# Altium schematic symbol library ICs.SchLib: 65 symbols
Pins are listed as number, name and electrical type; pins without a type are passive.

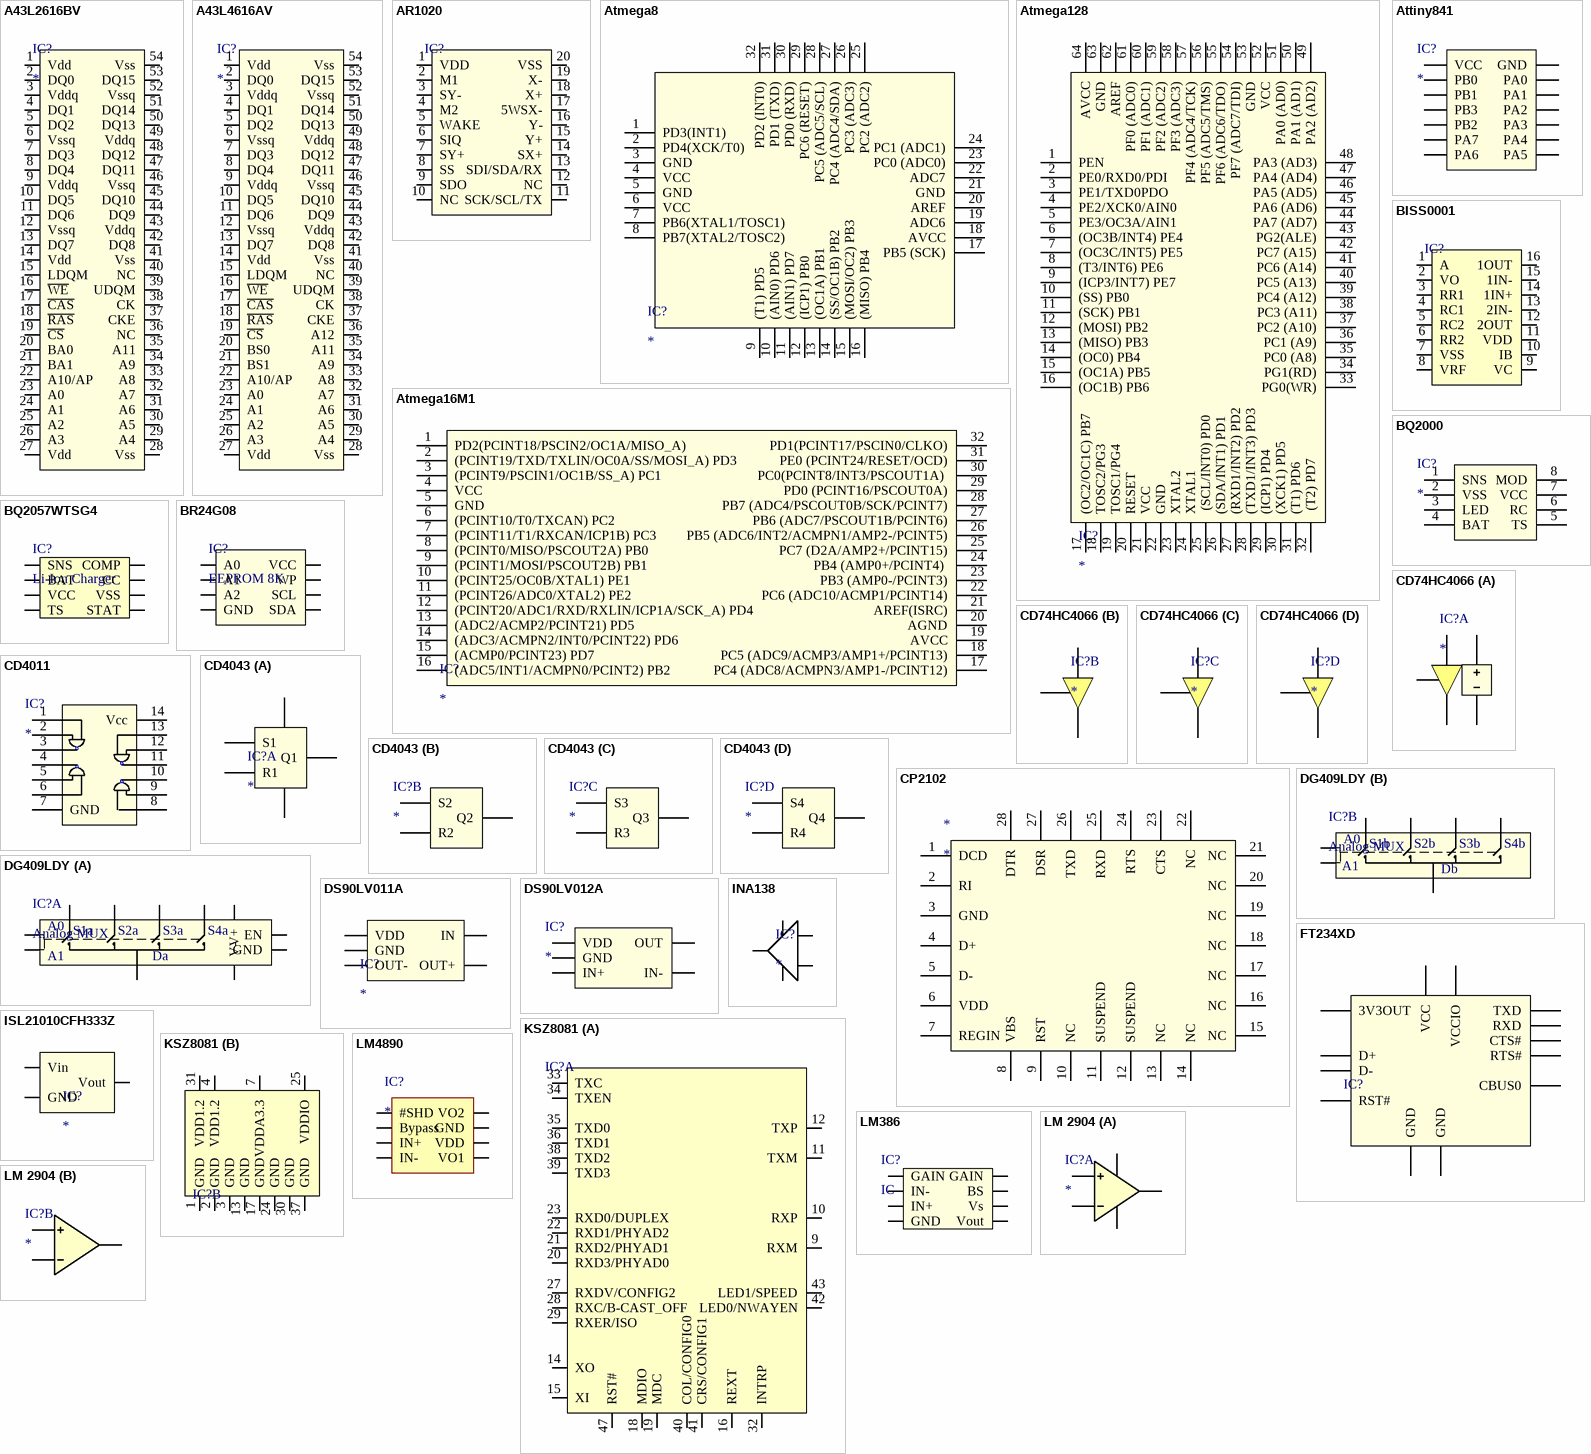
[diagram p0: symbols A43L2616BV to LM 2904]

## A43L2616BV
designator IC?
DRAM 64M; Ordercode: A43L2616BV-7F; ComponentLink1Description: Datasheet; Lötbarkeit RoHS: YES; Material RoHS: YES
footprint TSOP-54 (TSOP, 54-Leads, Body 22,22x10,16mm, Pitch 0,80mm, IPC Medium Density)
pins: 1 Vdd, 2 DQ0, 3 Vddq, 4 DQ1, 5 DQ2, 6 Vssq, 7 DQ3, 8 DQ4, 9 Vddq, 10 DQ5, 11 DQ6, 12 Vssq, 13 DQ7, 14 Vdd, 15 LDQM, 16 ~{WE}, 17 ~{CAS}, 18 ~{RAS}, 19 ~{CS}, 20 BA0, 21 BA1, 22 A10/AP, 23 A0, 24 A1, 25 A2, 26 A3, 27 Vdd, 28 Vss, 29 A4, 30 A5, 31 A6, 32 A7, 33 A8, 34 A9, 35 A11, 36 NC, 37 CKE, 38 CK, 39 UDQM, 40 NC, 41 Vss, 42 DQ8, 43 Vddq, 44 DQ9, 45 DQ10, 46 Vssq, 47 DQ11, 48 DQ12, 49 Vddq, 50 DQ13, 51 DQ14, 52 Vssq, 53 DQ15, 54 Vss

## A43L4616AV
designator IC?
RAM 256M; Ordercode: A43L4616AV; ComponentLink1Description: Datasheet; Lötbarkeit RoHS: YES; Material RoHS: YES
footprint TSOP-54 (TSOP, 54-Leads, Body 22,22x10,16mm, Pitch 0,80mm, IPC Medium Density)
pins: 1 Vdd, 2 DQ0, 3 Vddq, 4 DQ1, 5 DQ2, 6 Vssq, 7 DQ3, 8 DQ4, 9 Vddq, 10 DQ5, 11 DQ6, 12 Vssq, 13 DQ7, 14 Vdd, 15 LDQM, 16 ~{WE}, 17 ~{CAS}, 18 ~{RAS}, 19 ~{CS}, 20 BS0, 21 BS1, 22 A10/AP, 23 A0, 24 A1, 25 A2, 26 A3, 27 Vdd, 28 Vss, 29 A4, 30 A5, 31 A6, 32 A7, 33 A8, 34 A9, 35 A11, 36 A12, 37 CKE, 38 CK, 39 UDQM, 40 NC, 41 Vss, 42 DQ8, 43 Vddq, 44 DQ9, 45 DQ10, 46 Vssq, 47 DQ11, 48 DQ12, 49 Vddq, 50 DQ13, 51 DQ14, 52 Vssq, 53 DQ15, 54 Vss

## AR1020
designator IC?, comment Resistive TouchScreen Controller  (value not drawn)
Ordercode: AR1020T-I/SS; ComponentLink1Description: Datasheet; Lötbarkeit RoHS: YES; Material RoHS: YES
footprint SSOP20 (SOP, 20-Leads, Body 7,20x5,30mm, Pitch 0,65mm, IPC Medium Density)
pins: 1 VDD, 2 M1, 3 SY-, 4 M2, 5 WAKE, 6 SIQ, 7 SY+, 8 SS, 9 SDO, 10 NC, 11 SCK/SCL/TX, 12 NC, 13 SDI/SDA/RX, 14 SX+, 15 Y+, 16 Y-, 17 5WSX-, 18 X+, 19 X-, 20 VSS

## Atmega8
designator IC?
ComponentLink1Description: Datasheet; ComponentLink1URL: http://www.atmel.com/images/atmel-2486-8-bit-avr-microcontroller-atmega8_l_datasheet.pdf; Lötbarkeit RoHS: YES; Material RoHS: YES
footprint TQFP-32 (TQFP, 32-Leads, Body 7,00x7,00mm, Pitch 0,80mm, IPC Medium Density)
pins: 1 PD3(INT1), 2 PD4(XCK/T0), 3 GND, 4 VCC, 5 GND, 6 VCC, 7 PB6(XTAL1/TOSC1), 8 PB7(XTAL2/TOSC2), 9 (T1) PD5, 10 (AIN0) PD6, 11 (AIN1) PD7, 12 (ICP1) PB0, 13 (OC1A) PB1, 14 (SS/OC1B) PB2, 15 (MOSI/OC2) PB3, 16 (MISO) PB4, 17 PB5 (SCK), 18 AVCC, 19 ADC6, 20 AREF, 21 GND, 22 ADC7, 23 PC0 (ADC0), 24 PC1 (ADC1), 25 PC2 (ADC2), 26 PC3 (ADC3), 27 PC4 (ADC4/SDA), 28 PC5 (ADC5/SCL), 29 PC6 (RESET), 30 PD0 (RXD), 31 PD1 (TXD), 32 PD2 (INT0)

## Atmega16M1
designator IC?
ComponentLink1Description: Datasheet; ComponentLink1URL: http://www.atmel.com/Images/doc8209.pdf; Lötbarkeit RoHS: YES; Material RoHS: YES
footprint TQFP32 (TQFP, 32-Leads, Body 7,00x7,00mm, Pitch 0,80mm, IPC Medium Density)
pins: 1 PD2(PCINT18/PSCIN2/OC1A/MISO_A), 2 (PCINT19/TXD/TXLIN/OC0A/SS/MOSI_A) PD3, 3 (PCINT9/PSCIN1/OC1B/SS_A) PC1, 4 VCC, 5 GND, 6 (PCINT10/T0/TXCAN) PC2, 7 (PCINT11/T1/RXCAN/ICP1B) PC3, 8 (PCINT0/MISO/PSCOUT2A) PB0, 9 (PCINT1/MOSI/PSCOUT2B) PB1, 10 (PCINT25/OC0B/XTAL1) PE1, 11 (PCINT26/ADC0/XTAL2) PE2, 12 (PCINT20/ADC1/RXD/RXLIN/ICP1A/SCK_A) PD4, 13 (ADC2/ACMP2/PCINT21) PD5, 14 (ADC3/ACMPN2/INT0/PCINT22) PD6, 15 (ACMP0/PCINT23) PD7, 16 (ADC5/INT1/ACMPN0/PCINT2) PB2, 17 PC4 (ADC8/ACMPN3/AMP1-/PCINT12), 18 PC5 (ADC9/ACMP3/AMP1+/PCINT13), 19 AVCC, 20 AGND, 21 AREF(ISRC), 22 PC6 (ADC10/ACMP1/PCINT14), 23 PB3 (AMP0-/PCINT3), 24 PB4 (AMP0+/PCINT4) , 25 PC7 (D2A/AMP2+/PCINT15), 26 PB5 (ADC6/INT2/ACMPN1/AMP2-/PCINT5), 27 PB6 (ADC7/PSCOUT1B/PCINT6), 28 PB7 (ADC4/PSCOUT0B/SCK/PCINT7), 29 PD0 (PCINT16/PSCOUT0A), 30 PC0(PCINT8/INT3/PSCOUT1A) , 31 PE0 (PCINT24/RESET/OCD), 32 PD1(PCINT17/PSCIN0/CLKO)

## Atmega128
designator IC?
ComponentLink1Description: Datasheet; Lötbarkeit RoHS: YES; Material RoHS: YES
footprint TQFP 64 (atmega128) (TQFP, 64-Leads, Body 14,00x14,00mm, Pitch 0,80mm, IPC Medium Density)
pins: 1 PEN, 2 PE0/RXD0/PDI, 3 PE1/TXD0PDO, 4 PE2/XCK0/AIN0, 5 PE3/OC3A/AIN1, 6 (OC3B/INT4) PE4, 7 (OC3C/INT5) PE5, 8 (T3/INT6) PE6, 9 (ICP3/INT7) PE7, 10 (SS) PB0, 11 (SCK) PB1, 12 (MOSI) PB2, 13 (MISO) PB3, 14 (OC0) PB4, 15 (OC1A) PB5, 16 (OC1B) PB6, 17 (OC2/OC1C) PB7, 18 TOSC2/PG3, 19 TOSC1/PG4, 20 RESET, 21 VCC, 22 GND, 23 XTAL2, 24 XTAL1, 25  (SCL/INT0) PD0, 26 (SDA/INT1) PD1, 27 (RXD1/INT2) PD2, 28 (TXD1/INT3) PD3, 29 (ICP1) PD4, 30 (XCK1) PD5, 31 (T1) PD6, 32  (T2) PD7, 33 PG0(WR), 34 PG1(RD), 35 PC0 (A8), 36 PC1 (A9), 37 PC2 (A10), 38 PC3 (A11), 39 PC4 (A12), 40 PC5 (A13), 41 PC6 (A14), 42 PC7 (A15), 43 PG2(ALE), 44 PA7 (AD7), 45 PA6 (AD6), 46 PA5 (AD5), 47 PA4 (AD4), 48 PA3 (AD3), 49 PA2 (AD2), 50 PA1 (AD1), 51 PA0 (AD0), 52 VCC, 53 GND, 54 PF7 (ADC7/TDI), 55 PF6 (ADC6/TDO), 56 PF5 (ADC5/TMS), 57 PF4 (ADC4/TCK), 58 PF3 (ADC3), 59 PF2 (ADC2), 60 PF1 (ADC1), 61 PF0 (ADC0), 62 AREF, 63 GND, 64 AVCC

## Attiny841
designator IC?
Ordercode: Attiny841; ComponentLink1Description: Datasheet; ComponentLink1URL: http://www.farnell.com/datasheets/1794216.pdf; Lötbarkeit RoHS: YES; Material RoHS: YES
footprint 14S1 (SOIC, 14-Leads, Body 8.65x3.90mm, Pitch 1.27mm, IPC Medium Density)
pins: 1 VCC, 2 PB0, 3 PB1, 4 PB3, 5 PB2, 6 PA7, 7 PA6, 8 PA5, 9 PA4, 10 PA3, 11 PA2, 12 PA1, 13 PA0, 14 GND

## BISS0001
designator IC?, comment PIR IC  (value not drawn)
Ordercode: BISS0001; ComponentLink1Description: Datasheet; Lötbarkeit RoHS: YES; Material RoHS: YES
footprint SOIC-16 (SOIC, 16-Leads, Body 9,90x3,90mm, Pitch 1,27mm, IPC Medium Density)
pins: 1 A, 2 VO, 3 RR1, 4 RC1, 5 RC2, 6 RR2, 7 VSS, 8 VRF, 9 VC, 10 IB, 11 VDD, 12 2OUT, 13 2IN-, 14 1IN+, 15 1IN-, 16 1OUT

## BQ2000
designator IC?
Ordercode: BQ2000; ComponentLink1Description: Datasheet; ComponentLink1URL: http://www.ti.com/lit/ds/symlink/bq2000.pdf; Lötbarkeit RoHS: YES; Material RoHS: YES
footprint SO-8 (SOIC, 8-Leads, Body 4,90x3,90mm, Pitch 1,27mm, IPC Medium Density)
pins: 1 SNS, 2 VSS, 3 LED, 4 BAT, 5 TS, 6 RC, 7 VCC, 8 MOD

## BQ2057WTSG4
designator IC?, comment Li-Ion Charger
Ordercode: BQ2057; ComponentLink1Description: Datasheet; Lötbarkeit RoHS: YES; Material RoHS: YES
footprint TSSOP-8 (TSOP, 8-Leads, Body 3,00x4,40mm, Pitch 0,65mm, IPC Medium Density)
pins: 1 SNS, 2 BAT, 3 VCC, 4 TS, 5 STAT, 6 VSS, 7 CC, 8 COMP

## BR24G08
designator IC?, comment EEPROM 8K
Ordercode: BR24G08; ComponentLink1Description: Datasheet; ComponentLink1URL: http://www.farnell.com/datasheets/1780795.pdf; Lötbarkeit RoHS: YES; Material RoHS: YES
footprint SO-8 (SOIC, 8-Leads, Body 4,90x3,90mm, Pitch 1,27mm, IPC Medium Density)
pins: 1 A0, 2 A1, 3 A2, 4 GND, 5 SDA, 6 SCL, 7 WP, 8 VCC

## CD74HC4066
designator IC?
Quad Analog Switch; Ordercode: CD74HC4066; ComponentLink1Description: Datasheet; Lötbarkeit RoHS: YES; Material RoHS: YES
part A pins: 1 1Y, 2 1Z, 7 GND, 13 1E, 14 VCC
part B pins: 3 2Z, 4 2Y, 5 2E
part C pins: 6 3E, 8 3Y, 9 3Z
part D pins: 10 4Z, 11 4Y, 12 4E

## CD4011
designator IC?
ComponentLink1Description: Datasheet; ComponentLink1URL: http://www.fairchildsemi.com/ds/CD/CD4011BC.pdf; Lötbarkeit RoHS: YES; Material RoHS: YES
footprint SOIC-14 (SOIC, 14-Leads, Body 10,20x5,30mm, Pitch 1,27mm, IPC Medium Density)
pins: 1, 2, 3, 4, 5, 6, 7 GND, 8, 9, 10, 11, 12, 13, 14 Vcc

## CD4043
designator IC?
Ordercode: 4043; ComponentLink1Description: Datasheet; Lötbarkeit RoHS: YES; Material RoHS: YES
footprint SOIC-16 (SOIC, 16-Leads, Body 9,90x3,90mm, Pitch 1,27mm, IPC Medium Density)
part A pins: 2 Q1, 3 R1, 4 S1, 8 VSS, 16 VDD
part B pins: 6 S2, 7 R2, 9 Q2
part C pins: 10 Q3, 11 R3, 12 S3
part D pins: 1 Q4, 14 S4, 15 R4

## CP2102
designator *
ComponentLink1Description: Datasheet; Lötbarkeit RoHS: YES; Material RoHS: YES
footprint QFN50P500X500X100_HS-29N (QFN, 28-Leads, Body 5,00x5,00mm, Pitch 0,50mm, Thermal Pad 3,13x3,13mm, IPC Medium Density)
pins: 1 DCD, 2 RI, 3 GND, 4 D+, 5 D-, 6 VDD, 7 REGIN, 8 VBS, 9 RST, 10 NC, 11 SUSPEND, 12 SUSPEND, 13 NC, 14 NC, 15 NC, 16 NC, 17 NC, 18 NC, 19 NC, 20 NC, 21 NC, 22 NC, 23 CTS, 24 RTS, 25 RXD, 26 TXD, 27 DSR, 28 DTR

## DG409LDY
designator IC?, comment Analog MUX
Ordercode: DG409DY; ComponentLink1Description: Datasheet; ComponentLink1URL: http://www.farnell.com/datasheets/1866554.pdf; Lötbarkeit RoHS: YES; Material RoHS: YES
footprint SOIC-16 (SOIC, 16-Leads, Body 9,90x3,90mm, Pitch 1,27mm, IPC Medium Density)
part A pins: 1 A0, 2 EN, 3 V-, 4 Sa1, 5 Sa2, 6 Sa3, 7 Sa4, 8 Da, 14 V+, 15 GND, 16 A1
part B pins: 1 A0, 9 Db, 10 Sb4, 11 Sb3, 12 Sb2, 13 Sb1, 16 A1
part A text: S1a; S2a; S3a; S4a
part B text: S1b; S2b; S3b; S4b

## DS90LV011A
designator IC?
LVDS Diver Tx; Ordercode: DS90LV011A; ComponentLink1Description: Datasheet; Lötbarkeit RoHS: YES; Material RoHS: YES
footprint SOT95P280X145-5N (SOT23, 5-Leads, Body 2,90x2,80mm, Pitch 0,95mm, IPC Medium Density)
pins: 1 VDD, 2 GND, 3 OUT-, 4 OUT+, 5 IN

## DS90LV012A
designator IC?
LVDS Driver Rx; Ordercode: DS90LV012A; ComponentLink1Description: Datasheet; Lötbarkeit RoHS: YES; Material RoHS: YES
footprint SOT95P280X145-5N (SOT23, 5-Leads, Body 2,90x2,80mm, Pitch 0,95mm, IPC Medium Density)
pins: 1 VDD, 2 GND, 3 IN+, 4 IN-, 5 OUT

## FT234XD
designator IC?  (value not drawn)
USB-UART; Ordercode: FT234XD; ComponentLink1Description: Datasheet; Lötbarkeit RoHS: YES; Material RoHS: YES
footprint QFN-12 (QFN, 12-Leads, Body 3,00x3,00mm, Pitch 0,45mm, Thermal Pad 1,58x2,48mm, IPC Medium Density)
pins: 1 D-, 2 RST#, 3 3V3OUT, 4 VCC, 5 GND, 6 CBUS0, 7 TXD, 8 RTS#, 9 VCCIO, 10 RXD, 11 CTS#, 12 D+, 13 GND

## INA138
designator IC?
ComponentLink1Description: Datasheet; ComponentLink1URL: http://www.farnell.com/datasheets/1786788.pdf; Lötbarkeit RoHS: YES; Material RoHS: YES
footprint SOT95P280X145-5N (SOT23, 5-Leads, Body 2,90x2,80mm, Pitch 0,95mm, IPC Medium Density)
pins: 1 OUT, 2 GND, 3 Vin+, 4 Vin-, 5 V+

## ISL21010CFH333Z
designator IC?
Ordercode: ISL21010CFH333Z; ComponentLink1Description: Datasheet; Lötbarkeit RoHS: YES; Material RoHS: YES
footprint SOT23 (SOT23, 3-Leads, Body 3,0x2,5mm (max), Pitch 0,95mm, IPC Low Density)
pins: 1 Vin, 2 GND, 3 Vout

## KSZ8081
designator IC?, comment Ethernet Controller 100Mbps  (value not drawn)
Ordercode: KSZ8081MLXCA-TR; ComponentLink1Description: Datasheet; Lötbarkeit RoHS: YES; Material RoHS: YES
footprint LQFP-48 (TSQFP, 48-Leads, Body 7,00x7,00mm, Pitch 0,50mm, IPC Medium Density)
part A pins: 9 RXM, 10 RXP, 11 TXM, 12 TXP, 14 XO, 15 XI, 16 REXT, 18 MDIO, 19 MDC, 20 RXD3/PHYAD0, 21 RXD2/PHYAD1, 22 RXD1/PHYAD2, 23 RXD0/DUPLEX, 27 RXDV/CONFIG2, 28 RXC/B-CAST_OFF, 29 RXER/ISO, 32 INTRP, 33 TXC, 34 TXEN, 35 TXD0, 36 TXD1, 38 TXD2, 39 TXD3, 40 COL/CONFIG0, 41 CRS/CONFIG1, 42 LED0/NWAYEN, 43 LED1/SPEED, 47 RST#
part B pins: 1 GND, 2 GND, 3 GND, 4 VDD1.2, 7 VDDA3.3, 13 GND, 17 GND, 24 GND, 25 VDDIO, 30 GND, 31 VDD1.2, 37 GND

## LM386
designator IC?, comment IC
Audio Amplifier; Ordercode: LM386; ComponentLink1Description: Datasheet; Lötbarkeit RoHS: YES; Material RoHS: YES
footprint SO-8 (SOIC, 8-Leads, Body 4,90x3,90mm, Pitch 1,27mm, IPC Medium Density)
pins: 1 GAIN, 2 IN-, 3 IN+, 4 GND, 5 Vout, 6 Vs, 7 BS, 8 GAIN

## LM4890
designator IC?
Audio Amp 1W; ComponentLink1Description: Datasheet; Lötbarkeit RoHS: YES; Material RoHS: YES
footprint Mini SOIC8 (TSOP, 8-Leads, Body 3,00x3,00mm, Pitch 0,65mm, IPC Medium Density)
pins: 1 #SHD, 2 Bypass, 3 IN+, 4 IN-, 5 VO1, 6 VDD, 7 GND, 8 VO2

## LM 2904
designator IC?
Ordercode: LM2904; ComponentLink1Description: Datasheet; ComponentLink1URL: http://www.ti.com/lit/ds/symlink/lm358.pdf; Lötbarkeit RoHS: YES; Material RoHS: YES
footprint SO-8 (SOIC, 8-Leads, Body 4,90x3,90mm, Pitch 1,27mm, IPC Medium Density)
part A pins: 1, 2, 3, 4, 8
part B pins: 4 hidden, 5, 6, 7, 8 hidden

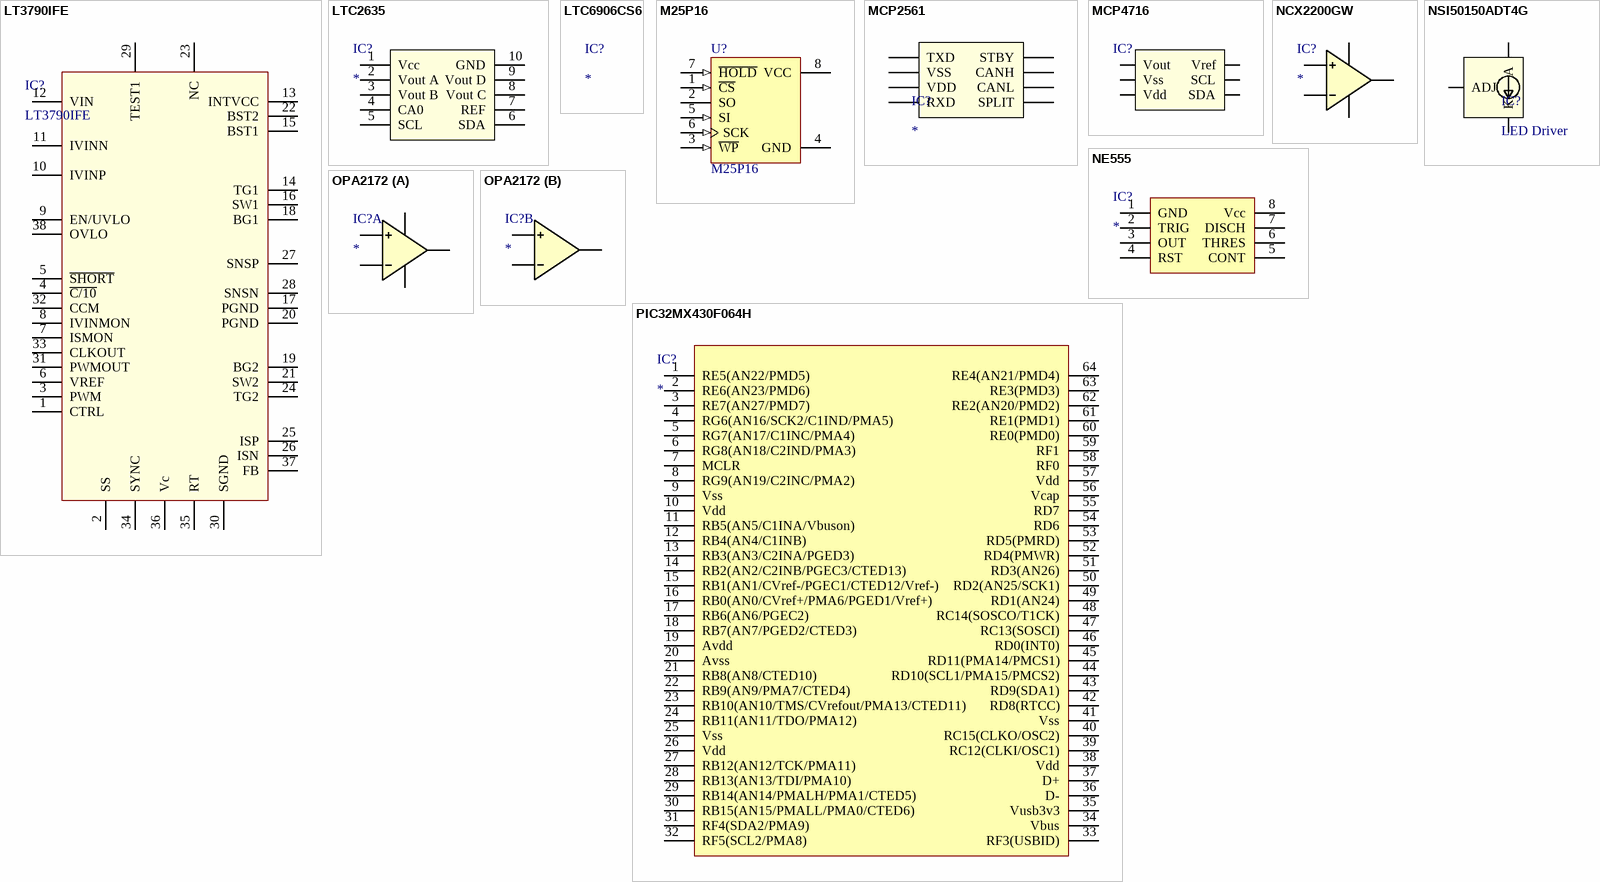
[diagram p1: symbols LT3790IFE to PIC32MX430F064H]

## LT3790IFE
designator IC?
Buck-Boost converter with very high efficiency; Manufacturer: Linear Technology; ComponentLink1Description: Datasheet; ComponentLink1URL: http://cds.linear.com/docs/en/datasheet/3790fa.pdf; Lötbarkeit RoHS: YES; Material RoHS: YES; Ordercode: LT3790IFE
footprint TSSOP-38 (TSSOP, 38-Leads, Body 9,70x4,40mm, Pitch 0,50mm, Thermal Pad 4,75x2,74mm, IPC Medium Density)
pins: 1 CTRL, 2 SS, 3 PWM, 4 ~{C/10}, 5 ~{SHORT}, 6 VREF, 7 ISMON, 8 IVINMON, 9 EN/UVLO, 10 IVINP, 11 IVINN, 12 VIN, 13 INTVCC, 14 TG1, 15 BST1, 16 SW1, 17 PGND, 18 BG1, 19 BG2, 20 PGND, 21 SW2, 22 BST2, 23 NC, 24 TG2, 25 ISP, 26 ISN, 27 SNSP, 28 SNSN, 29 TEST1, 30 SGND, 31 PWMOUT, 32 CCM, 33 CLKOUT, 34 SYNC, 35 RT, 36 Vc, 37 FB, 38 OVLO

## LTC2635
designator IC?
ComponentLink1Description: Datasheet; ComponentLink1URL: http://www.farnell.com/datasheets/1712315.pdf; Lötbarkeit RoHS: YES; Material RoHS: YES
footprint TSSOP50P490X110-10N (TSSOP, 10-Leads, Body 3,00x3,00mm, Pitch 0,50mm, IPC Medium Density)
pins: 1 Vcc, 2 Vout A, 3 Vout B, 4 CA0, 5 SCL, 6 SDA, 7 REF, 8 Vout C, 9 Vout D, 10 GND

## LTC6906CS6
designator IC?
ComponentLink1Description: Datasheet; Lötbarkeit RoHS: YES; Material RoHS: YES

## M25P16
designator U?
Serial Flash 16K; Ordercode: M25P16-VMN6P; ComponentLink1Description: Datasheet; Lötbarkeit RoHS: YES; Material RoHS: YES
footprint SOIC8 (SOIC, 8-Leads, Body 5,0x4,0mm (max), Pitch 1,27mm, IPC Low Density)
pins: 1 ~{CS} (in), 2 SO (hiz), 3 ~{WP} (in), 4 GND (power), 5 SI (in), 6 SCK (in), 7 ~{HOLD} (in), 8 VCC (power)

## MCP2561
designator IC?
ComponentLink1Description: Datasheet; ComponentLink1URL: http://ww1.microchip.com/downloads/en/DeviceDoc/25167B.pdf; Lötbarkeit RoHS: YES; Material RoHS: YES
footprint SO-8 (SOIC, 8-Leads, Body 4,90x3,90mm, Pitch 1,27mm, IPC Medium Density)
pins: 1 TXD, 2 VSS, 3 VDD, 4 RXD, 5 SPLIT, 6 CANL, 7 CANH, 8 STBY

## MCP4716
designator IC?, comment DAC  (value not drawn)
ComponentLink1Description: Datasheet; ComponentLink1URL: http://www.farnell.com/datasheets/1669523.pdf; Lötbarkeit RoHS: YES; Material RoHS: YES
footprint TSOP-6
pins: 1 Vout, 2 Vss, 3 Vdd, 4 SDA, 5 SCL, 6 Vref

## NCX2200GW
designator IC?
Comparator; Ordercode: NCX2200GW; ComponentLink1Description: Datasheet; Lötbarkeit RoHS: YES; Material RoHS: YES
footprint TSSOP5 (SOT23, 5-Leads, Body 2,05x2,13mm, Pitch 0,65mm, IPC Medium Density)
pins: 1 OUT, 2 GND, 3 IN+, 4 IN-, 5 VCC

## NE555
designator IC?
ComponentLink1Description: Datasheet; Lötbarkeit RoHS: YES; Material RoHS: YES
footprint SO-8 (SOIC, 8-Leads, Body 4,90x3,90mm, Pitch 1,27mm, IPC Medium Density)
pins: 1 GND, 2 TRIG, 3 OUT, 4 RST, 5 CONT, 6 THRES, 7 DISCH, 8 Vcc

## NSI50150ADT4G
designator IC?, comment LED Driver
Ordercode: NSI50150ADT4G; ComponentLink1Description: Datasheet; Lötbarkeit RoHS: YES; Material RoHS: YES
footprint DPAK 369C (D-PAK, 3-Pads, Body 6,21x6,73mm (max), IPC Medium Density)
pins: 1 A, 2 K, 3 ADJ

## OPA2172
designator IC?
Ordercode: OPA2172; ComponentLink1Description: Datasheet; ComponentLink1URL: http://www.farnell.com/datasheets/1886910.pdf; Lötbarkeit RoHS: YES; Material RoHS: YES
footprint SO-8 (SOIC, 8-Leads, Body 4,90x3,90mm, Pitch 1,27mm, IPC Medium Density)
part A pins: 1 1OUT, 2 1IN-, 3 1IN+, 4 VCC-, 8 VCC+
part B pins: 5 1IN+, 6 1IN-, 7 1OUT

## PIC32MX430F064H
designator IC?
Ordercode: PIC32MX430F064H; ComponentLink1Description: Datasheet; ComponentLink1URL: http://ww1.microchip.com/downloads/en/DeviceDoc/60001185C.pdf; Lötbarkeit RoHS: YES; Material RoHS: YES
footprint TQFP-64 (TSQFP, 64-Leads, Body 10,00x10,00mm, Pitch 0,50mm, IPC Medium Density)
pins: 1 RE5(AN22/PMD5), 2 RE6(AN23/PMD6), 3 RE7(AN27/PMD7), 4 RG6(AN16/SCK2/C1IND/PMA5), 5 RG7(AN17/C1INC/PMA4), 6 RG8(AN18/C2IND/PMA3), 7 MCLR, 8 RG9(AN19/C2INC/PMA2), 9 Vss, 10 Vdd, 11 RB5(AN5/C1INA/Vbuson), 12 RB4(AN4/C1INB), 13 RB3(AN3/C2INA/PGED3), 14 RB2(AN2/C2INB/PGEC3/CTED13), 15 RB1(AN1/CVref-/PGEC1/CTED12/Vref-), 16 RB0(AN0/CVref+/PMA6/PGED1/Vref+), 17 RB6(AN6/PGEC2), 18 RB7(AN7/PGED2/CTED3), 19 Avdd, 20 Avss, 21 RB8(AN8/CTED10), 22 RB9(AN9/PMA7/CTED4), 23 RB10(AN10/TMS/CVrefout/PMA13/CTED11), 24 RB11(AN11/TDO/PMA12), 25 Vss, 26 Vdd, 27 RB12(AN12/TCK/PMA11), 28 RB13(AN13/TDI/PMA10), 29 RB14(AN14/PMALH/PMA1/CTED5), 30 RB15(AN15/PMALL/PMA0/CTED6), 31 RF4(SDA2/PMA9), 32 RF5(SCL2/PMA8), 33 RF3(USBID), 34 Vbus, 35 Vusb3v3, 36 D-, 37 D+, 38 Vdd, 39 RC12(CLKI/OSC1), 40 RC15(CLKO/OSC2), 41 Vss, 42 RD8(RTCC), 43 RD9(SDA1), 44 RD10(SCL1/PMA15/PMCS2), 45 RD11(PMA14/PMCS1), 46 RD0(INT0), 47 RC13(SOSCI), 48 RC14(SOSCO/T1CK), 49 RD1(AN24), 50 RD2(AN25/SCK1), 51 RD3(AN26), 52 RD4(PMWR), 53 RD5(PMRD), 54 RD6, 55 RD7, 56 Vcap, 57 Vdd, 58 RF0, 59 RF1, 60 RE0(PMD0), 61 RE1(PMD1), 62 RE2(AN20/PMD2), 63 RE3(PMD3), 64 RE4(AN21/PMD4)

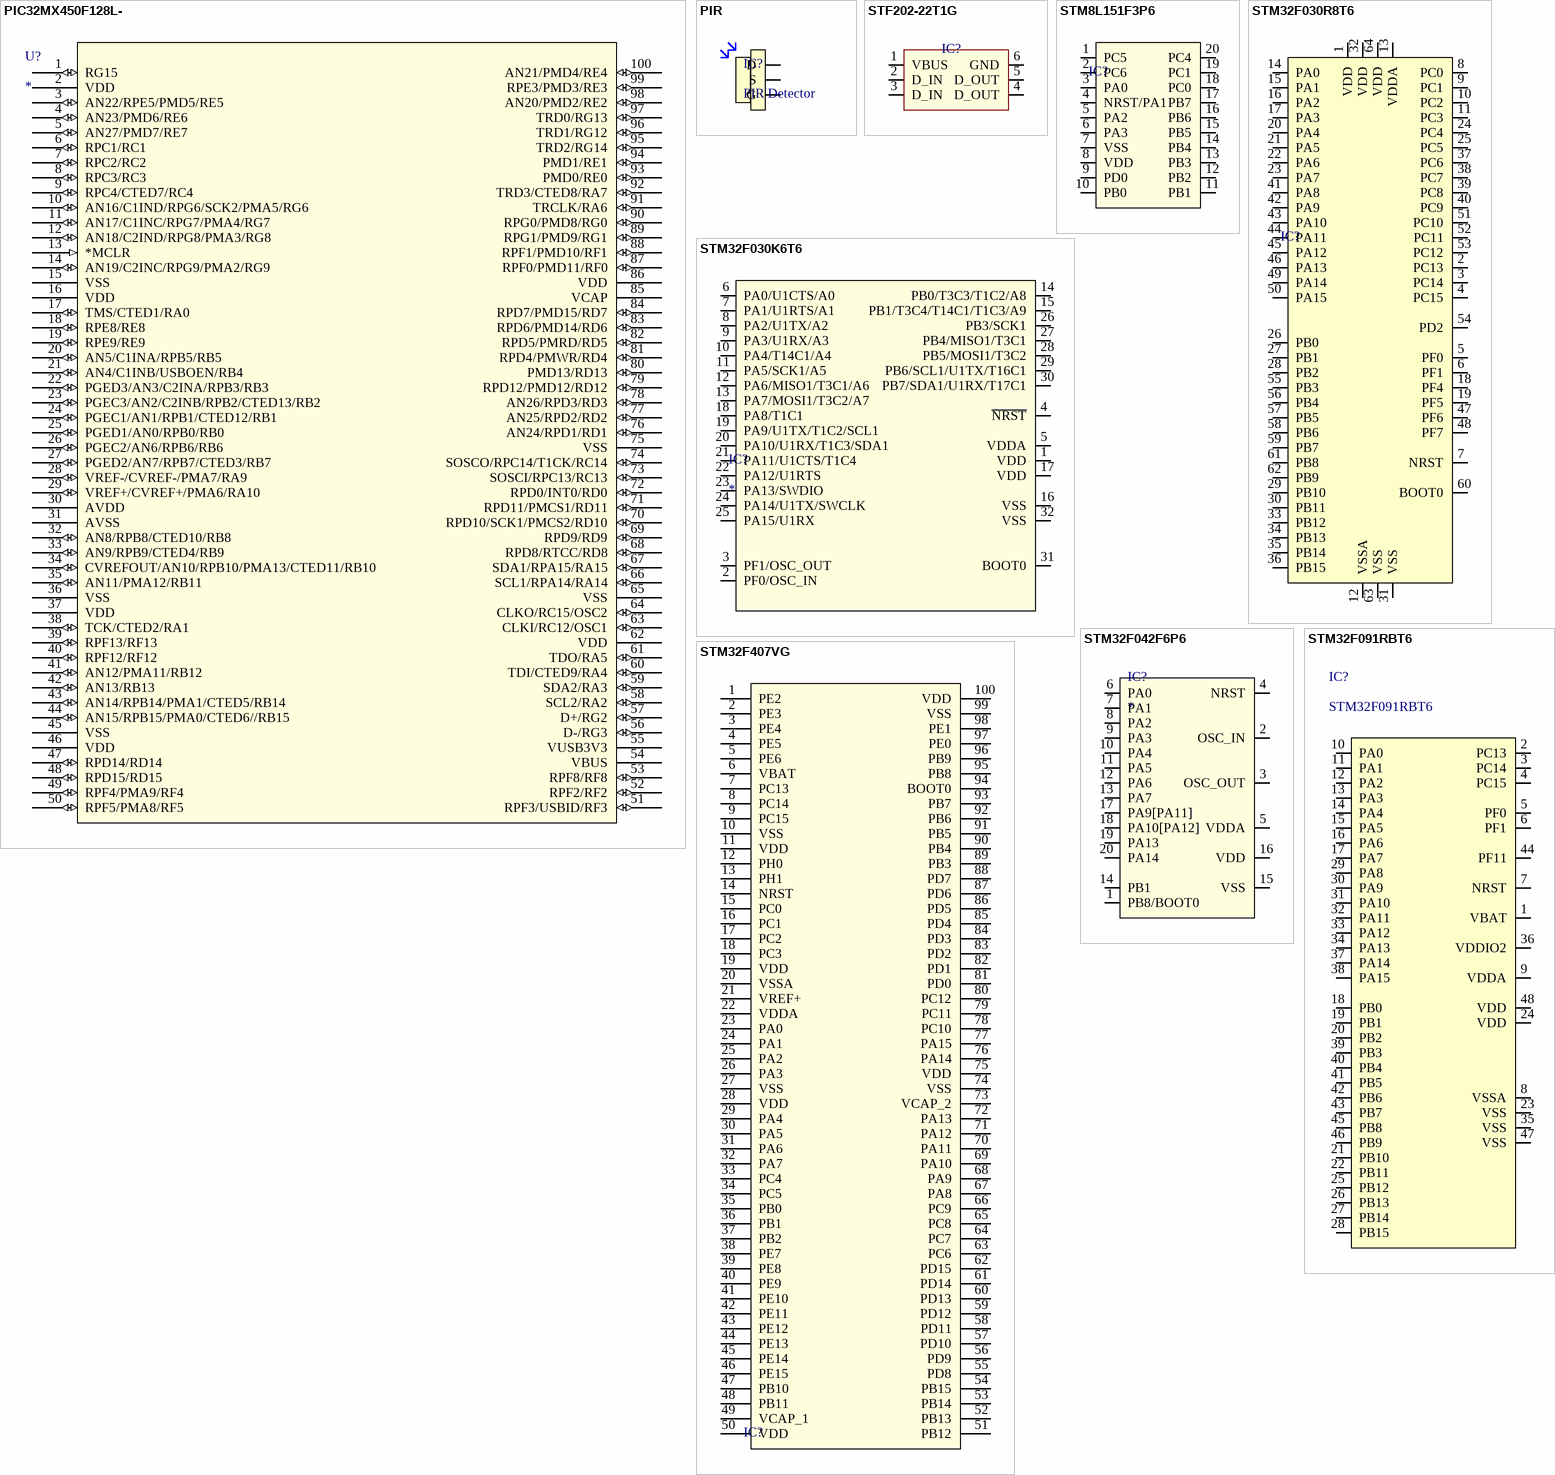
[diagram p2: symbols PIC32MX450F128L- to STM32F407VG]

## PIC32MX450F128L-
designator U?
Imported; ComponentLink1Description: Datasheet; Lötbarkeit RoHS: YES; Material RoHS: YES
footprint TSQFP50P1600X1600X120-100N (TSQFP, 100-Leads, Body 14,00x14,00mm, Pitch 0,50mm, IPC Medium Density)
footprint SQFP40P1400X1400X200-100N (SQFP, 100-Leads, Body 12,00x12,00mm, Pitch 0,40mm, IPC Medium Density)
pins: 1 RG15 (io), 2 VDD (power), 3 AN22/RPE5/PMD5/RE5 (io), 4 AN23/PMD6/RE6 (io), 5 AN27/PMD7/RE7 (io), 6 RPC1/RC1 (io), 7 RPC2/RC2 (io), 8 RPC3/RC3 (io), 9 RPC4/CTED7/RC4 (io), 10 AN16/C1IND/RPG6/SCK2/PMA5/RG6 (io), 11 AN17/C1INC/RPG7/PMA4/RG7 (io), 12 AN18/C2IND/RPG8/PMA3/RG8 (io), 13 *MCLR (in), 14 AN19/C2INC/RPG9/PMA2/RG9 (io), 15 VSS (power), 16 VDD (power), 17 TMS/CTED1/RA0 (io), 18 RPE8/RE8 (io), 19 RPE9/RE9 (io), 20 AN5/C1INA/RPB5/RB5 (io), 21 AN4/C1INB/USBOEN/RB4 (io), 22 PGED3/AN3/C2INA/RPB3/RB3 (io), 23 PGEC3/AN2/C2INB/RPB2/CTED13/RB2 (io), 24 PGEC1/AN1/RPB1/CTED12/RB1 (io), 25 PGED1/AN0/RPB0/RB0 (io), 26 PGEC2/AN6/RPB6/RB6 (io), 27 PGED2/AN7/RPB7/CTED3/RB7 (io), 28 VREF-/CVREF-/PMA7/RA9 (io), 29 VREF+/CVREF+/PMA6/RA10 (io), 30 AVDD (power), 31 AVSS (power), 32 AN8/RPB8/CTED10/RB8 (io), 33 AN9/RPB9/CTED4/RB9 (io), 34 CVREFOUT/AN10/RPB10/PMA13/CTED11/RB10 (io), 35 AN11/PMA12/RB11 (io), 36 VSS (power), 37 VDD (power), 38 TCK/CTED2/RA1 (io), 39 RPF13/RF13 (io), 40 RPF12/RF12 (io), 41 AN12/PMA11/RB12 (io), 42 AN13/RB13 (io), 43 AN14/RPB14/PMA1/CTED5/RB14 (io), 44 AN15/RPB15/PMA0/CTED6//RB15 (io), 45 VSS (power), 46 VDD (power), 47 RPD14/RD14 (io), 48 RPD15/RD15 (io), 49 RPF4/PMA9/RF4 (io), 50 RPF5/PMA8/RF5 (io), 51 RPF3/USBID/RF3 (io), 52 RPF2/RF2 (io), 53 RPF8/RF8 (io), 54 VBUS (power), 55 VUSB3V3 (power), 56 D-/RG3 (io), 57 D+/RG2 (io), 58 SCL2/RA2 (io), 59 SDA2/RA3 (io), 60 TDI/CTED9/RA4 (io), 61 TDO/RA5 (io), 62 VDD (power), 63 CLKI/RC12/OSC1 (io), 64 CLKO/RC15/OSC2 (io), 65 VSS (power), 66 SCL1/RPA14/RA14 (io), 67 SDA1/RPA15/RA15 (io), 68 RPD8/RTCC/RD8 (io), 69 RPD9/RD9 (io), 70 RPD10/SCK1/PMCS2/RD10 (io), 71 RPD11/PMCS1/RD11 (io), 72 RPD0/INT0/RD0 (io), 73 SOSCI/RPC13/RC13 (io), 74 SOSCO/RPC14/T1CK/RC14 (io), 75 VSS (power), 76 AN24/RPD1/RD1 (io), 77 AN25/RPD2/RD2 (io), 78 AN26/RPD3/RD3 (io), 79 RPD12/PMD12/RD12 (io), 80 PMD13/RD13 (io), 81 RPD4/PMWR/RD4 (io), 82 RPD5/PMRD/RD5 (io), 83 RPD6/PMD14/RD6 (io), 84 RPD7/PMD15/RD7 (io), 85 VCAP (power), 86 VDD (power), 87 RPF0/PMD11/RF0 (io), 88 RPF1/PMD10/RF1 (io), 89 RPG1/PMD9/RG1 (io), 90 RPG0/PMD8/RG0 (io), 91 TRCLK/RA6 (io), 92 TRD3/CTED8/RA7 (io), 93 PMD0/RE0 (io), 94 PMD1/RE1 (io), 95 TRD2/RG14 (io), 96 TRD1/RG12 (io), 97 TRD0/RG13 (io), 98 AN20/PMD2/RE2 (io), 99 RPE3/PMD3/RE3 (io), 100 AN21/PMD4/RE4 (io)

## PIR
designator IC?, comment PIR Detector
ComponentLink1Description: Datasheet; Lötbarkeit RoHS: YES; Material RoHS: YES; Ordercode: PIR
footprint PIR
pins: 1 D, 2 S, 3 G

## STF202-22T1G
designator IC?, comment USB ESD Protection  (value not drawn)
Ordercode: STF202-22T1G; ComponentLink1Description: Datasheet; Lötbarkeit RoHS: YES; Material RoHS: YES
footprint TSOP-6
pins: 1 VBUS, 2 D_IN, 3 D_IN, 4 D_OUT, 5 D_OUT, 6 GND

## STM8L151F3P6
designator IC?, comment 8Bit, Ultra LP, 8K,1K,256  (value not drawn)
Ordercode: STM8L151F3P6; ComponentLink1Description: Datasheet; Lötbarkeit RoHS: YES; Material RoHS: YES
footprint TSSOP-20 (TSOP, 20-Leads, Body 6,50x4,40mm, Pitch 0,65mm, IPC Medium Density)
pins: 1 PC5, 2 PC6, 3 PA0, 4 NRST/PA1, 5 PA2, 6 PA3, 7 VSS, 8 VDD, 9 PD0, 10 PB0, 11 PB1, 12 PB2, 13 PB3, 14 PB4, 15 PB5, 16 PB6, 17 PB7, 18 PC0, 19 PC1, 20 PC4

## STM32F030K6T6
designator IC?
Ordercode: STM32F030; ComponentLink1Description: Datasheet; Lötbarkeit RoHS: YES; Material RoHS: YES
footprint TQFP32 (TQFP, 32-Leads, Body 7,00x7,00mm, Pitch 0,80mm, IPC Medium Density)
pins: 1 VDD, 2 PF0/OSC_IN, 3 PF1/OSC_OUT, 4 ~{NRST}, 5 VDDA, 6 PA0/U1CTS/A0, 7 PA1/U1RTS/A1, 8 PA2/U1TX/A2, 9 PA3/U1RX/A3, 10 PA4/T14C1/A4, 11 PA5/SCK1/A5, 12 PA6/MISO1/T3C1/A6, 13 PA7/MOSI1/T3C2/A7, 14 PB0/T3C3/T1C2/A8, 15 PB1/T3C4/T14C1/T1C3/A9, 16 VSS, 17 VDD, 18 PA8/T1C1, 19 PA9/U1TX/T1C2/SCL1, 20 PA10/U1RX/T1C3/SDA1, 21 PA11/U1CTS/T1C4, 22 PA12/U1RTS, 23 PA13/SWDIO, 24 PA14/U1TX/SWCLK, 25 PA15/U1RX, 26 PB3/SCK1, 27 PB4/MISO1/T3C1, 28 PB5/MOSI1/T3C2, 29 PB6/SCL1/U1TX/T16C1, 30 PB7/SDA1/U1RX/T17C1, 31 BOOT0, 32 VSS

## STM32F030R8T6
designator IC?, comment MCU 32Bit  (value not drawn)
Ordercode: STM32F030R8; ComponentLink1Description: Datasheet; ComponentLink1URL: http://www.farnell.com/datasheets/1883133.pdf; Lötbarkeit RoHS: YES; Material RoHS: YES
footprint LQFP-64 (TSQFP, 64-Leads, Body 10,00x10,00mm, Pitch 0,50mm, IPC Medium Density)
pins: 1 VDD, 2 PC13, 3 PC14, 4 PC15, 5 PF0, 6 PF1, 7 NRST, 8 PC0, 9 PC1, 10 PC2, 11 PC3, 12 VSSA, 13 VDDA, 14 PA0, 15 PA1, 16 PA2, 17 PA3, 18 PF4, 19 PF5, 20 PA4, 21 PA5, 22 PA6, 23 PA7, 24 PC4, 25 PC5, 26 PB0, 27 PB1, 28 PB2, 29 PB10, 30 PB11, 31 VSS, 32 VDD, 33 PB12, 34 PB13, 35 PB14, 36 PB15, 37 PC6, 38 PC7, 39 PC8, 40 PC9, 41 PA8, 42 PA9, 43 PA10, 44 PA11, 45 PA12, 46 PA13, 47 PF6, 48 PF7, 49 PA14, 50 PA15, 51 PC10, 52 PC11, 53 PC12, 54 PD2, 55 PB3, 56 PB4, 57 PB5, 58 PB6, 59 PB7, 60 BOOT0, 61 PB8, 62 PB9, 63 VSS, 64 VDD

## STM32F042F6P6
designator IC?
Ordercode: STM32F042F6P6; ComponentLink1Description: Datasheet; Lötbarkeit RoHS: YES; Material RoHS: YES
footprint TSSOP-20 (TSOP, 20-Leads, Body 6,50x4,40mm, Pitch 0,65mm, IPC Medium Density)
pins: 1 PB8/BOOT0, 2 OSC_IN, 3 OSC_OUT, 4 NRST, 5 VDDA, 6 PA0, 7 PA1, 8 PA2, 9 PA3, 10 PA4, 11 PA5, 12 PA6, 13 PA7, 14 PB1, 15 VSS, 16 VDD, 17 PA9[PA11], 18 PA10[PA12], 19 PA13, 20 PA14

## STM32F091RBT6
designator IC?
ComponentLink1Description: Datasheet; Lötbarkeit RoHS: YES; Material RoHS: YES
footprint LQFP-48 (TSQFP, 48-Leads, Body 7,00x7,00mm, Pitch 0,50mm, IPC Medium Density)
footprint UFQFPB-48
pins: 1 VBAT, 2 PC13, 3 PC14, 4 PC15, 5 PF0, 6 PF1, 7 NRST, 8 VSSA, 9 VDDA, 10 PA0, 11 PA1, 12 PA2, 13 PA3, 14 PA4, 15 PA5, 16 PA6, 17 PA7, 18 PB0, 19 PB1, 20 PB2, 21 PB10, 22 PB11, 23 VSS, 24 VDD, 25 PB12, 26 PB13, 27 PB14, 28 PB15, 29 PA8, 30 PA9, 31 PA10, 32 PA11, 33 PA12, 34 PA13, 35 VSS, 36 VDDIO2, 37 PA14, 38 PA15, 39 PB3, 40 PB4, 41 PB5, 42 PB6, 43 PB7, 44 PF11, 45 PB8, 46 PB9, 47 VSS, 48 VDD

## STM32F407VG
designator IC?, comment 32Bit, 168MHz, 1MB, 192KB  (value not drawn)
Ordercode: STM32F407VGT6; ComponentLink1Description: Datasheet; ComponentLink1URL: http://www.farnell.com/datasheets/1719442.pdf; Lötbarkeit RoHS: YES; Material RoHS: YES
footprint LQFP-100 (TSQFP, 100-Leads, Body 14,00x14,00mm, Pitch 0,50mm, IPC Medium Density)
pins: 1 PE2, 2 PE3, 3 PE4, 4 PE5, 5 PE6, 6 VBAT, 7 PC13, 8 PC14, 9 PC15, 10 VSS, 11 VDD, 12 PH0, 13 PH1, 14 NRST, 15 PC0, 16 PC1, 17 PC2, 18 PC3, 19 VDD, 20 VSSA, 21 VREF+, 22 VDDA, 23 PA0, 24 PA1, 25 PA2, 26 PA3, 27 VSS, 28 VDD, 29 PA4, 30 PA5, 31 PA6, 32 PA7, 33 PC4, 34 PC5, 35 PB0, 36 PB1, 37 PB2, 38 PE7, 39 PE8, 40 PE9, 41 PE10, 42 PE11, 43 PE12, 44 PE13, 45 PE14, 46 PE15, 47 PB10, 48 PB11, 49 VCAP_1, 50 VDD, 51 PB12, 52 PB13, 53 PB14, 54 PB15, 55 PD8, 56 PD9, 57 PD10, 58 PD11, 59 PD12, 60 PD13, 61 PD14, 62 PD15, 63 PC6, 64 PC7, 65 PC8, 66 PC9, 67 PA8, 68 PA9, 69 PA10, 70 PA11, 71 PA12, 72 PA13, 73 VCAP_2, 74 VSS, 75 VDD, 76 PA14, 77 PA15, 78 PC10, 79 PC11, 80 PC12, 81 PD0, 82 PD1, 83 PD2, 84 PD3, 85 PD4, 86 PD5, 87 PD6, 88 PD7, 89 PB3, 90 PB4, 91 PB5, 92 PB6, 93 PB7, 94 BOOT0, 95 PB8, 96 PB9, 97 PE0, 98 PE1, 99 VSS, 100 VDD

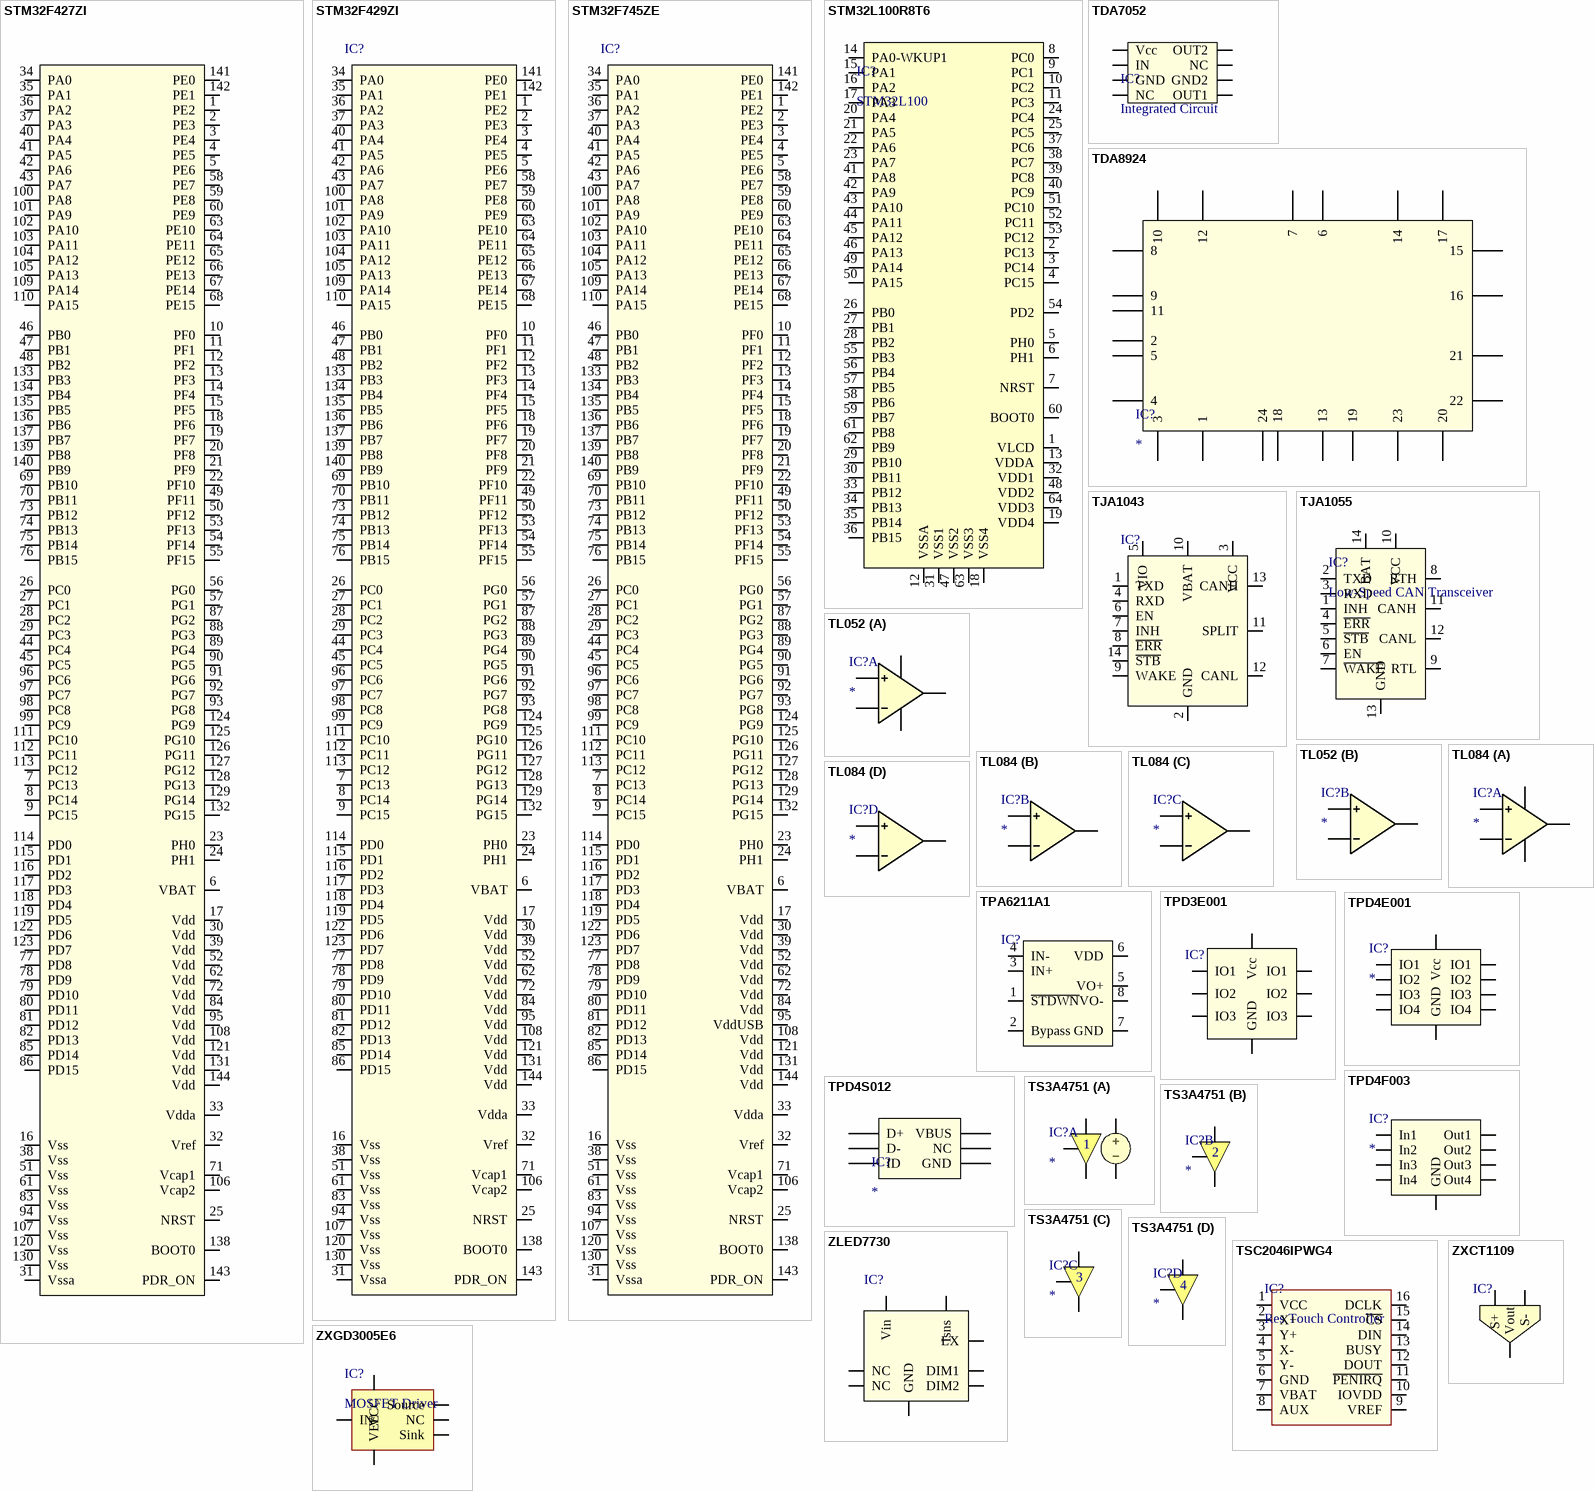
[diagram p3: symbols STM32F427ZI to ZXGD3005E6]

## STM32F427ZI
designator IC?
Ordercode: STM32F427ZI; ComponentLink1Description: Datasheet; Lötbarkeit RoHS: YES; Material RoHS: YES
footprint LQFP-144 (TSQFP, 144-Leads, Body 20,00x20,00mm, Pitch 0,50mm, IPC Medium Density)
pins: 1 PE2, 2 PE3, 3 PE4, 4 PE5, 5 PE6, 6 VBAT, 7 PC13, 8 PC14, 9 PC15, 10 PF0, 11 PF1, 12 PF2, 13 PF3, 14 PF4, 15 PF5, 16 Vss, 17 Vdd, 18 PF6, 19 PF7, 20 PF8, 21 PF9, 22 PF10, 23 PH0, 24 PH1, 25 NRST, 26 PC0, 27 PC1, 28 PC2, 29 PC3, 30 Vdd, 31 Vssa, 32 Vref, 33 Vdda, 34 PA0, 35 PA1, 36 PA2, 37 PA3, 38 Vss, 39 Vdd, 40 PA4, 41 PA5, 42 PA6, 43 PA7, 44 PC4, 45 PC5, 46 PB0, 47 PB1, 48 PB2, 49 PF11, 50 PF12, 51 Vss, 52 Vdd, 53 PF13, 54 PF14, 55 PF15, 56 PG0, 57 PG1, 58 PE7, 59 PE8, 60 PE9, 61 Vss, 62 Vdd, 63 PE10, 64 PE11, 65 PE12, 66 PE13, 67 PE14, 68 PE15, 69 PB10, 70 PB11, 71 Vcap1, 72 Vdd, 73 PB12, 74 PB13, 75 PB14, 76 PB15, 77 PD8, 78 PD9, 79 PD10, 80 PD11, 81 PD12, 82 PD13, 83 Vss, 84 Vdd, 85 PD14, 86 PD15, 87 PG2, 88 PG3, 89 PG4, 90 PG5, 91 PG6, 92 PG7, 93 PG8, 94 Vss, 95 Vdd, 96 PC6, 97 PC7, 98 PC8, 99 PC9, 100 PA8, 101 PA9, 102 PA10, 103 PA11, 104 PA12, 105 PA13, 106 Vcap2, 107 Vss, 108 Vdd, 109 PA14, 110 PA15, 111 PC10, 112 PC11, 113 PC12, 114 PD0, 115 PD1, 116 PD2, 117 PD3, 118 PD4, 119 PD5, 120 Vss, 121 Vdd, 122 PD6, 123 PD7, 124 PG9, 125 PG10, 126 PG11, 127 PG12, 128 PG13, 129 PG14, 130 Vss, 131 Vdd, 132 PG15, 133 PB3, 134 PB4, 135 PB5, 136 PB6, 137 PB7, 138 BOOT0, 139 PB8, 140 PB9, 141 PE0, 142 PE1, 143 PDR_ON, 144 Vdd

## STM32F429ZI
designator IC?  (value not drawn)
Ordercode: STM32F429ZI; ComponentLink1Description: Datasheet; Lötbarkeit RoHS: YES; Material RoHS: YES
footprint LQFP-144 (TSQFP, 144-Leads, Body 20,00x20,00mm, Pitch 0,50mm, IPC Medium Density)
pins: 1 PE2, 2 PE3, 3 PE4, 4 PE5, 5 PE6, 6 VBAT, 7 PC13, 8 PC14, 9 PC15, 10 PF0, 11 PF1, 12 PF2, 13 PF3, 14 PF4, 15 PF5, 16 Vss, 17 Vdd, 18 PF6, 19 PF7, 20 PF8, 21 PF9, 22 PF10, 23 PH0, 24 PH1, 25 NRST, 26 PC0, 27 PC1, 28 PC2, 29 PC3, 30 Vdd, 31 Vssa, 32 Vref, 33 Vdda, 34 PA0, 35 PA1, 36 PA2, 37 PA3, 38 Vss, 39 Vdd, 40 PA4, 41 PA5, 42 PA6, 43 PA7, 44 PC4, 45 PC5, 46 PB0, 47 PB1, 48 PB2, 49 PF11, 50 PF12, 51 Vss, 52 Vdd, 53 PF13, 54 PF14, 55 PF15, 56 PG0, 57 PG1, 58 PE7, 59 PE8, 60 PE9, 61 Vss, 62 Vdd, 63 PE10, 64 PE11, 65 PE12, 66 PE13, 67 PE14, 68 PE15, 69 PB10, 70 PB11, 71 Vcap1, 72 Vdd, 73 PB12, 74 PB13, 75 PB14, 76 PB15, 77 PD8, 78 PD9, 79 PD10, 80 PD11, 81 PD12, 82 PD13, 83 Vss, 84 Vdd, 85 PD14, 86 PD15, 87 PG2, 88 PG3, 89 PG4, 90 PG5, 91 PG6, 92 PG7, 93 PG8, 94 Vss, 95 Vdd, 96 PC6, 97 PC7, 98 PC8, 99 PC9, 100 PA8, 101 PA9, 102 PA10, 103 PA11, 104 PA12, 105 PA13, 106 Vcap2, 107 Vss, 108 Vdd, 109 PA14, 110 PA15, 111 PC10, 112 PC11, 113 PC12, 114 PD0, 115 PD1, 116 PD2, 117 PD3, 118 PD4, 119 PD5, 120 Vss, 121 Vdd, 122 PD6, 123 PD7, 124 PG9, 125 PG10, 126 PG11, 127 PG12, 128 PG13, 129 PG14, 130 Vss, 131 Vdd, 132 PG15, 133 PB3, 134 PB4, 135 PB5, 136 PB6, 137 PB7, 138 BOOT0, 139 PB8, 140 PB9, 141 PE0, 142 PE1, 143 PDR_ON, 144 Vdd

## STM32F745ZE
designator IC?  (value not drawn)
Ordercode: STM32F745ZE; ComponentLink1Description: Datasheet; Lötbarkeit RoHS: YES; Material RoHS: YES
footprint LQFP-144 (TSQFP, 144-Leads, Body 20,00x20,00mm, Pitch 0,50mm, IPC Medium Density)
pins: 1 PE2, 2 PE3, 3 PE4, 4 PE5, 5 PE6, 6 VBAT, 7 PC13, 8 PC14, 9 PC15, 10 PF0, 11 PF1, 12 PF2, 13 PF3, 14 PF4, 15 PF5, 16 Vss, 17 Vdd, 18 PF6, 19 PF7, 20 PF8, 21 PF9, 22 PF10, 23 PH0, 24 PH1, 25 NRST, 26 PC0, 27 PC1, 28 PC2, 29 PC3, 30 Vdd, 31 Vssa, 32 Vref, 33 Vdda, 34 PA0, 35 PA1, 36 PA2, 37 PA3, 38 Vss, 39 Vdd, 40 PA4, 41 PA5, 42 PA6, 43 PA7, 44 PC4, 45 PC5, 46 PB0, 47 PB1, 48 PB2, 49 PF11, 50 PF12, 51 Vss, 52 Vdd, 53 PF13, 54 PF14, 55 PF15, 56 PG0, 57 PG1, 58 PE7, 59 PE8, 60 PE9, 61 Vss, 62 Vdd, 63 PE10, 64 PE11, 65 PE12, 66 PE13, 67 PE14, 68 PE15, 69 PB10, 70 PB11, 71 Vcap1, 72 Vdd, 73 PB12, 74 PB13, 75 PB14, 76 PB15, 77 PD8, 78 PD9, 79 PD10, 80 PD11, 81 PD12, 82 PD13, 83 Vss, 84 Vdd, 85 PD14, 86 PD15, 87 PG2, 88 PG3, 89 PG4, 90 PG5, 91 PG6, 92 PG7, 93 PG8, 94 Vss, 95 VddUSB, 96 PC6, 97 PC7, 98 PC8, 99 PC9, 100 PA8, 101 PA9, 102 PA10, 103 PA11, 104 PA12, 105 PA13, 106 Vcap2, 107 Vss, 108 Vdd, 109 PA14, 110 PA15, 111 PC10, 112 PC11, 113 PC12, 114 PD0, 115 PD1, 116 PD2, 117 PD3, 118 PD4, 119 PD5, 120 Vss, 121 Vdd, 122 PD6, 123 PD7, 124 PG9, 125 PG10, 126 PG11, 127 PG12, 128 PG13, 129 PG14, 130 Vss, 131 Vdd, 132 PG15, 133 PB3, 134 PB4, 135 PB5, 136 PB6, 137 PB7, 138 BOOT0, 139 PB8, 140 PB9, 141 PE0, 142 PE1, 143 PDR_ON, 144 Vdd

## STM32L100R8T6
designator IC?, comment STM32L100
Ordercode: STM32L100R8T6; ComponentLink1Description: Datasheet; Lötbarkeit RoHS: YES; Material RoHS: YES
footprint LQFP-64 (TSQFP, 64-Leads, Body 10,00x10,00mm, Pitch 0,50mm, IPC Medium Density)
pins: 1 VLCD, 2 PC13, 3 PC14, 4 PC15, 5 PH0, 6 PH1, 7 NRST, 8 PC0, 9 PC1, 10 PC2, 11 PC3, 12 VSSA, 13 VDDA, 14 PA0-WKUP1, 15 PA1, 16 PA2, 17 PA3, 18 VSS4, 19 VDD4, 20 PA4, 21 PA5, 22 PA6, 23 PA7, 24 PC4, 25 PC5, 26 PB0, 27 PB1, 28 PB2, 29 PB10, 30 PB11, 31 VSS1, 32 VDD1, 33 PB12, 34 PB13, 35 PB14, 36 PB15, 37 PC6, 38 PC7, 39 PC8, 40 PC9, 41 PA8, 42 PA9, 43 PA10, 44 PA11, 45 PA12, 46 PA13, 47 VSS2, 48 VDD2, 49 PA14, 50 PA15, 51 PC10, 52 PC11, 53 PC12, 54 PD2, 55 PB3, 56 PB4, 57 PB5, 58 PB6, 59 PB7, 60 BOOT0, 61 PB8, 62 PB9, 63 VSS3, 64 VDD3

## TDA7052
designator IC?, comment Integrated Circuit
1W Audio Amplifier; Ordercode: TDA7052; ComponentLink1Description: Datasheet; Lötbarkeit RoHS: YES; Material RoHS: YES
footprint SO-8 (SOIC, 8-Leads, Body 4,90x3,90mm, Pitch 1,27mm, IPC Medium Density)
pins: 1 Vcc, 2 IN, 3 GND, 4 NC, 5 OUT1, 6 GND2, 7 NC, 8 OUT2

## TDA8924
designator IC?
ComponentLink1Description: Datasheet; Lötbarkeit RoHS: YES; Material RoHS: YES
footprint SOP100P1420X350-24N (SOP, 24-Leads, Body 15,90x11,00mm, Pitch 1,00mm, IPC Medium Density)
pins: 1, 2, 3, 4, 5, 6, 7, 8, 9, 10, 11, 12, 13, 14, 15, 16, 17, 18, 19, 20, 21, 22, 23, 24

## TJA1043
designator IC?  (value not drawn)
High-Speed CAN Transceiver; Ordercode: TJA1043; ComponentLink1Description: Datasheet; Lötbarkeit RoHS: YES; Material RoHS: YES
footprint SOIC-14 (SOIC, 14-Leads, Body 10,20x5,30mm, Pitch 1,27mm, IPC Medium Density)
pins: 1 TXD, 2 GND, 3 VCC, 4 RXD, 5 VIO, 6 EN, 7 INH, 8 ~{ERR}, 9 WAKE, 10 VBAT, 11 SPLIT, 12 CANL, 13 CANH, 14 ~{STB}

## TJA1055
designator IC?, comment Low-Speed CAN Transceiver
Ordercode: TJA1055; ComponentLink1Description: Datasheet; Lötbarkeit RoHS: YES; Material RoHS: YES
footprint SOIC-14 (SOIC, 14-Leads, Body 10,20x5,30mm, Pitch 1,27mm, IPC Medium Density)
pins: 1 INH, 2 TXD, 3 RXD, 4 ~{ERR}, 5 ~{STB}, 6 EN, 7 ~{WAKE}, 8 RTH, 9 RTL, 10 VCC, 11 CANH, 12 CANL, 13 GND, 14 BAT

## TL052
designator IC?
Ordercode: TL052; ComponentLink1Description: Datasheet; Lötbarkeit RoHS: YES; Material RoHS: YES
footprint SO-8 (SOIC, 8-Leads, Body 4,90x3,90mm, Pitch 1,27mm, IPC Medium Density)
part A pins: 1 1OUT, 2 1IN-, 3 1IN+, 4 VCC-, 8 VCC+
part B pins: 5 1IN+, 6 1IN-, 7 1OUT

## TL084
designator IC?
Operational Amplifier; Ordercode: TL084; ComponentLink1Description: Datasheet; ComponentLink1URL: http://www.ti.com/lit/ds/symlink/tl084a.pdf; Lötbarkeit RoHS: YES; Material RoHS: YES
part A pins: 1 1OUT, 2 1IN-, 3 1IN+, 4 VCC+, 11 VCC-
part B pins: 5 2IN+, 6 2IN-, 7 2OUT
part C pins: 8 3OUT, 9 3IN-, 10 3IN+
part D pins: 12 4IN+, 13 4IN-, 14 4OUT

## TPA6211A1
designator IC?  (value not drawn)
Audio Amp 3.1W; Ordercode: TPA6211A1DGNG4; ComponentLink1Description: Datasheet; Lötbarkeit RoHS: YES; Material RoHS: YES
footprint MSOP-8 (TSOP, 8-Leads, Body 3,00x3,00mm, Pitch 0,65mm, Thermal Pad 1,89.2x1,57.2mm, IPC Medium Density)
pins: 1 ~{STDWN}, 2 Bypass, 3 IN+, 4 IN-, 5 VO+, 6 VDD, 7 GND, 8 VO-

## TPD3E001
designator IC?, comment 3-Channel ESD protection  (value not drawn)
ComponentLink1Description: Datasheet; Lötbarkeit RoHS: YES; Material RoHS: YES
pins: 1 IO1, 1 IO1, 2 IO2, 2 IO2, 3 GND, 4 IO3, 4 IO3, 5 Vcc

## TPD4E001
designator IC?
4-Channel ESD Protection; Ordercode: TPD4E001; ComponentLink1Description: Datasheet; Lötbarkeit RoHS: YES; Material RoHS: YES
pins: 1 IO1, 1 IO1, 2 GND, 3 IO2, 3 IO2, 4 IO3, 4 IO3, 5 Vcc, 6 IO4, 6 IO4

## TPD4F003
designator IC?
4Ch EMI Filter with ESD Protection; Ordercode: TPD4F003; ComponentLink1Description: Datasheet; Lötbarkeit RoHS: YES; Material RoHS: YES
footprint QFN-8 (QFN, 8-Leads, Body 1,35x1,70mm, Pitch 0,40mm, Thermal Pad 0,40x1,20mm, IPC Medium Density)
pins: 1 In1, 2 In2, 3 In3, 4 In4, 5 Out4, 6 Out3, 7 Out2, 8 Out1, 9 GND

## TPD4S012
designator IC?
ESD Protection Device; Ordercode: TPD4S012; ComponentLink1Description: Datasheet; Lötbarkeit RoHS: YES; Material RoHS: YES
footprint QFN-6 (QFN, 6-Leads, Body 1,00x1,45mm, Pitch 0,50mm, IPC Medium Density)
pins: 1 D+, 2 D-, 3 ID, 4 GND, 5 NC, 6 VBUS

## TS3A4751
designator IC?
Ordercode: TS3A4751; ComponentLink1Description: Datasheet; Lötbarkeit RoHS: YES; Material RoHS: YES
footprint QFN-14 (QFN, 14-Leads, Body 2,00x2,00mm, Pitch 0,40mm, IPC Medium Density)
footprint TSOP-14 (TSOP, 14-Leads, Body 5,00x4,40mm, Pitch 0,65mm, IPC Medium Density)
part A pins: 1 NO1, 2 COM1, 7 GND, 13 IN1, 14 VCC
part B pins: 3 NO2, 4 COM2, 5 IN2
part C pins: 6 IN3, 8 NO3, 9 COM3
part D pins: 10 COM4, 11 NO4, 12 IN4

## TSC2046IPWG4
designator IC?, comment Res Touch Controller
Ordercode: TSC2046IPWG4; ComponentLink1Description: Datasheet; Lötbarkeit RoHS: YES; Material RoHS: YES
footprint TSOP-16 (TSOP, 16-Leads, Body 5,00x4,40mm, Pitch 0,65mm, IPC Medium Density)
pins: 1 VCC, 2 X+, 3 Y+, 4 X-, 5 Y-, 6 GND, 7 VBAT, 8 AUX, 9 VREF, 10 IOVDD, 11 ~{PENIRQ}, 12 DOUT, 13 BUSY, 14 DIN, 15 ~{CS}, 16 DCLK

## ZLED7730
designator IC?, comment LED Driver  (value not drawn)
Ordercode: ZLED7730; ComponentLink1Description: Datasheet; Lötbarkeit RoHS: YES; Material RoHS: YES
footprint SO-8 (SOIC, 8-Leads, Body 4,90x3,90mm, Pitch 1,27mm, IPC Medium Density)
pins: 1 Vin, 2 Isns, 3 NC, 4 NC, 5 DIM2, 6 DIM1, 7 GND, 8 LX

## ZXCT1109
designator IC?, comment Current Ssense  (value not drawn)
Ordercode: ZXCT1109SA-7; ComponentLink1Description: Datasheet; Lötbarkeit RoHS: YES; Material RoHS: YES
footprint SOT23 (SOT23, 3-Leads, Body 3,0x2,5mm (max), Pitch 0,95mm, IPC Low Density)
pins: 1 S-, 2 Vout, 3 S+

## ZXGD3005E6
designator IC?, comment MOSFET Driver
Ordercode: ZXGD3005E6; ComponentLink1Description: Datasheet; Lötbarkeit RoHS: YES; Material RoHS: YES
pins: 1 VCC, 2 IN, 3 VEE, 4 Sink, 5 NC, 6 Source